# EAGLE library part MAX34409 (library custom)
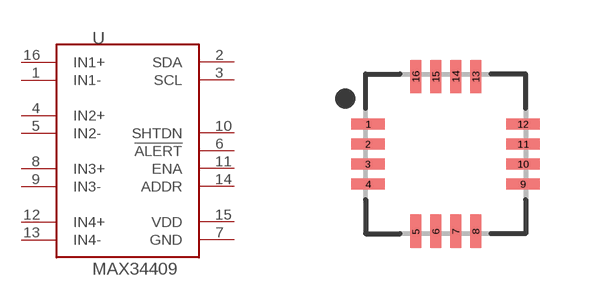
[diagram p0: symbol with the pads of QFN50P400X400X75-16N; footprint QFN50P400X400X75-16N]

Designator prefix -

## MAX34409TQFN16  [QFN50P400X400X75-16N]
1  IN1-
2  SDA
3  SCL
4  IN2+
5  IN2-
6  !ALERT
7  GND
8  IN3+
9  IN3-
10  SHTDN
11  ENA
12  IN4+
13  IN4-
14  ADDR
15  VDD
16  IN1+

## Footprint QFN50P400X400X75-16N (pad centres in mm)
16-QFN, 0.50 mm pitch, 4.00 X 4.00 X 0.75 mm body 16-pin QFN package with 0.50 mm pitch with body size 4.00 X 4.00 X 0.75 mm
smd 0.837 x 0.27: 1 -1.937,0.75; 2 -1.937,0.25; 3 -1.937,-0.25; 4 -1.937,-0.75; 9 1.937,-0.75; 10 1.937,-0.25; 11 1.937,0.25; 12 1.937,0.75
smd 0.27 x 0.837: 5 -0.75,-1.937; 6 -0.25,-1.937; 7 0.25,-1.937; 8 0.75,-1.937; 13 0.75,1.937; 14 0.25,1.937; 15 -0.25,1.937; 16 -0.75,1.937